# EAGLE library part 3M-SD_CONNECTOR (library ivar)
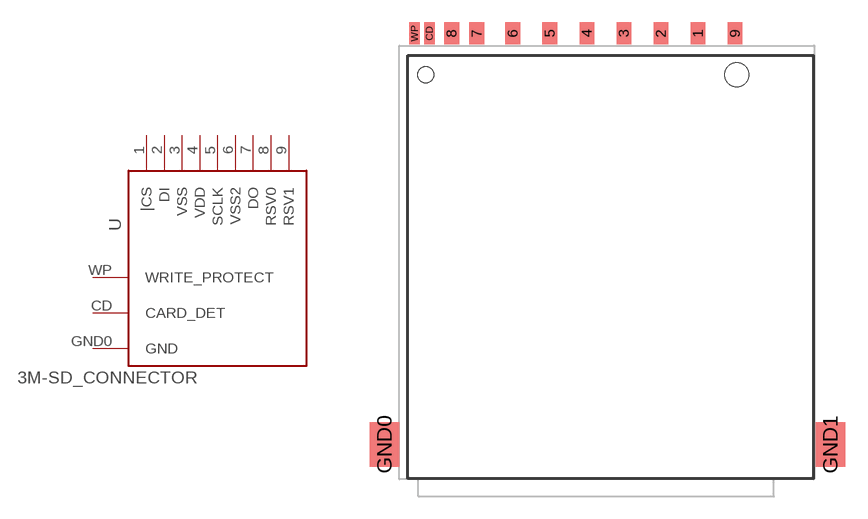
[diagram p0: symbol with the pads of 3M-HC07814A; footprint 3M-HC07814A]

Designator prefix -

## 3M-SD_CONNECTOR  [3M-HC07814A]
1  |CS
2  DI
3  VSS
4  VDD
5  SCLK
6  VSS2
7  DO
8  RSV0
9  RSV1
CD  CARD_DET
GND0  GND
WP  WRITE_PROTECT

## Footprint 3M-HC07814A (pad centres in mm)
smd 1 x 1.5: 1 6.88,26.25; 2 4.38,26.25; 3 1.88,26.25; 4 -0.62,26.25; 5 -3.12,26.25; 6 -5.62,26.25; 7 -8.05,26.25; 8 -9.75,26.25; 9 9.38,26.25
smd 0.7 x 1.5: CD -11.25,26.25; WP -12.25,26.25
smd 2 x 3: GND0 -14.28,-1.5; GND1 15.82,-1.5
hole 1.1 at -11.5,23.45
hole 1.6 at 9.5,23.45